# Altium schematic symbol library BGS12WN6E6327XTSA1.SchLib: 1 symbol
Pins are listed as number, name and electrical type; pins without a type are passive.

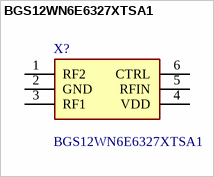
[diagram p0: symbol BGS12WN6E6327XTSA1]

## BGS12WN6E6327XTSA1
designator X?
IC RF SWITCH SPDT 9GHZ TSNP6-10; Manufacturer_Name: Infineon; Geometry.Height: 0.4mm; Manufacturer_Part_Number: BGS12WN6E6327XTSA1; Mouser Part Number: 726-BGS12WN6E6327XTS; Mouser Price/Stock: https://www.mouser.co.uk/ProductDetail/Infineon-Technologies/BGS12WN6E6327XTSA1?qs=unwgFEO1A6uim3e4emYLzg%3D%3D; Arrow Part Number: BGS12WN6E6327XTSA1; Arrow Price/Stock: https://www.arrow.com/en/products/bgs12wn6e6327xtsa1/infineon-technologies-ag.html?utm_currency=USD&region=nac; Datasheet Link: https://www.infineon.com/dgdl/Infineon-BGS12WN6-DataSheet-v01_00-EN.pdf?fileId=5546d4626b2d8e69016b89d2b3334727
footprint BGS12WN6E6327XTSA1
pins: 1 RF2, 2 GND, 3 RF1, 4 VDD, 5 RFIN, 6 CTRL